# Altium schematic symbol library eggubator.SchLib: 30 symbols (part 2 of 2)
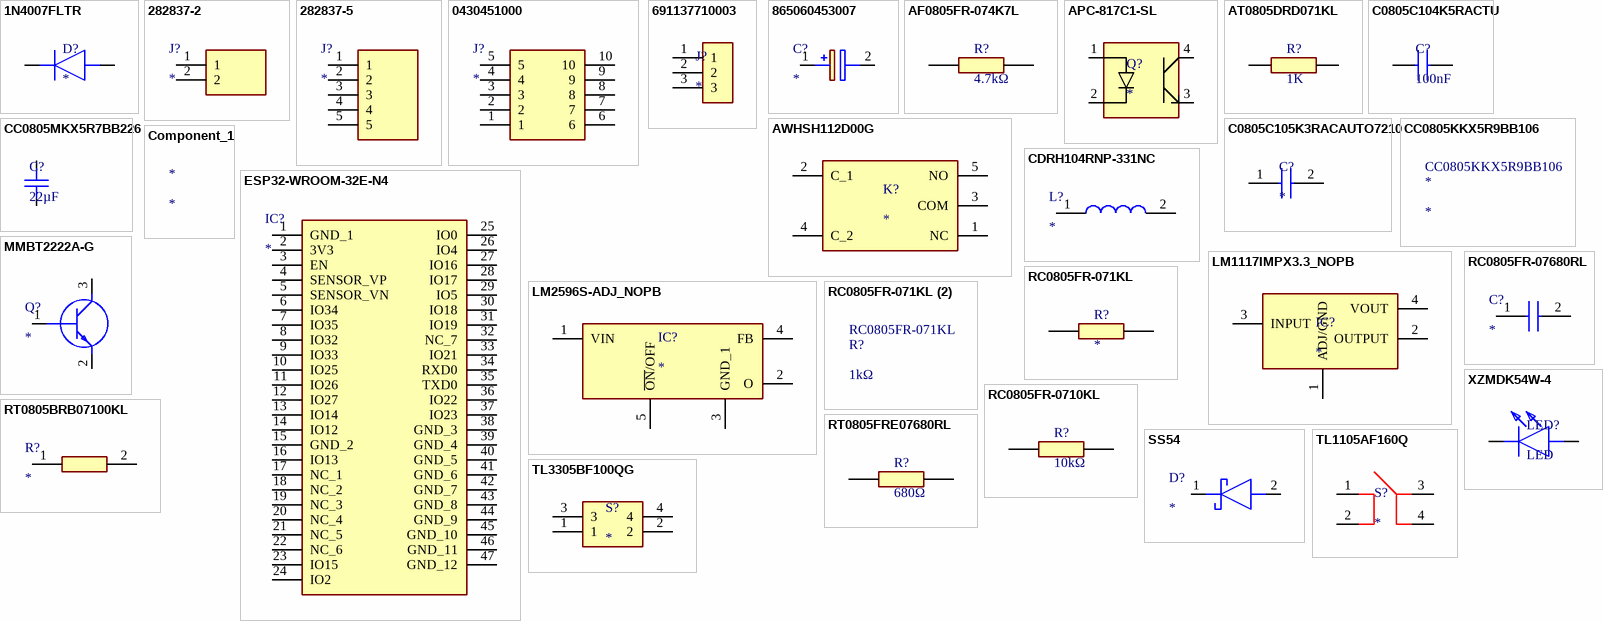
[diagram p1: symbols 1N4007FLTR to XZMDK54W-4]

## RC0805FR-07680RL
designator C?
Capacitor; Manufacturer_Name: Yageo Group; Manufacturer_Part_Number: RC0805FR-07680RL; Datasheet Link: https://www.yageo.com/upload/media/product/productsearch/datasheet/rchip/PYu-RC_Group_51_RoHS_L_12.pdf; Height: 0.6mm; Mouser Part Number: 603-RC0805FR-07680RL; Mouser Price/Stock: https://www.mouser.co.uk/ProductDetail/YAGEO/RC0805FR-07680RL?qs=g6xwsc4j%252B%2FokQfkwsK2vhQ%3D%3D; Arrow Part Number: RC0805FR-07680RL; Arrow Price/Stock: https://www.arrow.com/en/products/rc0805fr-07680rl/yageo.html?utm_currency=USD&region=europe
footprint CAPC2012X60N
pins: 1, 2

## RT0805BRB07100KL
designator R?
Resistor; Manufacturer_Name: Yageo Group; Manufacturer_Part_Number: RT0805BRB07100KL; Datasheet Link: https://componentsearchengine.com/Datasheets/1/RT0805BRB07100KL.pdf; Height: 0.6mm; Mouser Part Number: 603-RT0805BRB07100KL; Mouser Price/Stock: https://www.mouser.co.uk/ProductDetail/Yageo/RT0805BRB07100KL?qs=%2Ff7pOCXLR5dJS%252B%2Fgjsh%2Fvg%3D%3D; Arrow Part Number: RT0805BRB07100KL; Arrow Price/Stock: https://www.arrow.com/en/products/rt0805brb07100kl/yageo
footprint RESC2012X60N
pins: 1 (power), 2 (power)

## RT0805FRE07680RL
designator R?, comment 680Ω
125mW Thin Film Resistor ±50ppm/℃ ±1% 680Ω 0805 Chip Resistor - Surface Mount ROHS; Manufacturer: Yageo Group; Manufacturer Part Number: RT0805FRE07680RL; Manufacturer Package Identifier: 0805 (2012 metric); Temperature Coefficient: 50ppm/°C; Voltage Rating: 150V; Supplier 1: DigiKey; RoHS: Compliant; Category: Chip SMD Resistors; Stock 1: 3497; Pricing 1: 1=0.1, 10=0.019, 50=0.0166, 100=0.0157, 500=0.01376 (USD); Case/Package: 0805; Case Code (Imperial): 0805; China RoHS: Non-Compliant; Composition: Thin Film; Contact Plating: Tin; Country of Origin: Mainland China, Taiwan; Export Control Classification Number (ECCN) Code: EAR99; Height: 500µm; Harmonized Tariff Schedule (HTS) Code: 8533.21.00.30; Introduction Date: 2008-07-11; Lead Free: Lead Free; Length: 2mm; Lifecycle Status: Production; Max Operating Temperature: 155°C; Max Power Dissipation: 125mW; Min Operating Temperature: -55°C; Mount: Surface Mount; Number of Pins: 2; Number of Terminals: 2; Number of Terminations: 2; Packaging: Tape & Reel (TR); Power Rating: 125mW; Radiation Hardening: No; REACH SVHC: Yes; Resistance: 680Ω; Tolerance: 1%; Voltage Rating (DC): 150V; Width: 1.25mm; Working Voltage: 150V; ComponentLink1URL: https://datasheet.octopart.com:443/RT0805FRE07680RL-Yageo-datasheet-176402239.pdf?src-supplier=Future+Electronics; ComponentLink1Description: https://datasheet.octopart.com:443/RT0805FRE07680RL-Yageo-datasheet-176402239.pdf?src-supplier=Future+Electronics; ComponentLink2URL: https://datasheet.octopart.com:443/RT0805FRE07680RL-Yageo-datasheet-169971040.pdf?src-supplier=Future+Electronics; ComponentLink2Description: https://datasheet.octopart.com:443/RT0805FRE07680RL-Yageo-datasheet-169971040.pdf?src-supplier=Future+Electronics; ComponentLink3URL: https://datasheet.octopart.com:443/RT0805FRE07680RL-Yageo-datasheet-166250672.pdf?src-supplier=Future+Electronics; ComponentLink3Description: https://datasheet.octopart.com:443/RT0805FRE07680RL-Yageo-datasheet-166250672.pdf?src-supplier=Future+Electronics; ComponentLink4URL: https://datasheet.octopart.com:443/RT0805FRE07680RL-Yageo-datasheet-96443642.pdf?src-supplier=Upverter; ComponentLink4Description: https://datasheet.octopart.com:443/RT0805FRE07680RL-Yageo-datasheet-96443642.pdf?src-supplier=Upverter; ComponentLink5URL: https://datasheet.octopart.com:443/RT0805FRE07680RL-Yageo-datasheet-8324589.pdf?src-supplier=Farnell; ComponentLink5Description: https://datasheet.octopart.com:443/RT0805FRE07680RL-Yageo-datasheet-8324589.pdf?src-supplier=Farnell; ComponentLink6URL: https://datasheet.octopart.com/RT0805FRE07680RL-Yageo-datasheet-86813807.pdf; ComponentLink6Description: https://datasheet.octopart.com/RT0805FRE07680RL-Yageo-datasheet-86813807.pdf; ComponentLink7URL: http://sigma.octopart.com:80/conflict_mineral_statement/Yageo-company-3.pdf?src-supplier=Compliance+Statements; ComponentLink7Description: http://sigma.octopart.com:80/conflict_mineral_statement/Yageo-company-3.pdf?src-supplier=Compliance+Statements; ComponentLink8URL: http://sigma.octopart.com:80/rohs_statement/Yageo-company-2.pdf?src-supplier=Compliance+Statements; ComponentLink8Description: http://sigma.octopart.com:80/rohs_statement/Yageo-company-2.pdf?src-supplier=Compliance+Statements; Supplier Part Number 1: 13-RT0805FRE07680RLCT-ND
footprint RES 0805_2012 RF (Chip Resistor, 2-Leads, Body 2.00x1.25mm, IPC High Density)
pins: 1 (power), 2 (power)

## SS54
designator D?
Schottky Diode; Manufacturer_Name: DIYI Elec Tech; Manufacturer_Part_Number: SS54; Datasheet Link: https://datasheet.lcsc.com/szlcsc/DIYI-Elec-Tech-SS54_C84165.pdf; Height: 2.62mm
footprint DIOM5026X262N
pins: 1 K, 2 A

## TL1105AF160Q
designator S?
Switch; Manufacturer_Name: E-Switch; Manufacturer_Part_Number: TL1105AF160Q; Datasheet Link: https://configured-product-images.s3.amazonaws.com/2D/specs/TL1105CF250Q.pdf; Height: 6.8mm; Mouser Part Number: 612-TL1105A; Mouser Price/Stock: https://www.mouser.co.uk/ProductDetail/E-Switch/TL1105AF160Q?qs=YXf4ACKMM4wdc4witUH7eQ%3D%3D
footprint TL1105AF160Q
pins: 1 COM_1, 2 COM_2, 3 NO_1, 4 NO_2

## TL3305BF100QG
designator S?
Switch; Manufacturer_Name: E-Switch; Manufacturer_Part_Number: TL3305BF100QG; Datasheet Link: https://configured-product-images.s3.amazonaws.com/2D/specs/TL3313AF100QG.pdf; Mouser Part Number: 612-TL3305BF100QG; Mouser Price/Stock: https://www.mouser.co.uk/ProductDetail/E-Switch/TL3305BF100QG?qs=IKkN%2F947nfDIPwqPQja%252BvQ%3D%3D
footprint TL3305BF160QG
pins: 1, 2, 3, 4

## XZMDK54W-4
designator LED?, comment LED
Single Color LED, Red, Water Clear, 1.3mm; Manufacturer_Name: SunLED; Manufacturer_Part_Number: XZMDK54W-4; Forward Current: 30mA; Luminous Intensity: 149mcd; Number of Circuits: 1; Peak Wavelength: 650nm; Shape: Rectangular; Viewing Angle: 110°; Datasheet Link: https://www.sunledusa.com/products/spec/XZMDK54W-4.pdf; Height: 0.5mm; Supplier 1: DigiKey; Manufacturer: SunLED; Manufacturer Part Number: XZMDK54W-4; RoHS: Compliant; Category: LEDs; Stock 1: 23282; Pricing 1: 1=0.21, 10=0.143, 100=0.0996, 500=0.07964, 1000=0.07301 (USD); China RoHS: Compliant; Color: Red; Country of Origin: Mainland China; Harmonized Tariff Schedule (HTS) Code: 8541.40.20.00; Introduction Date: 2004-09-24; Lifecycle Status: Production; Max Operating Temperature: 85°C; Min Operating Temperature: -40°C; Mount: Surface Mount; Number of Terminals: 2; REACH SVHC: Yes; Terminal Pitch: 2.1mm; Wavelength: 650nm; ComponentLink1URL: https://datasheet.octopart.com:443/XZMDK54W-4-SunLED-datasheet-181251984.pdf?src-supplier=IHS; ComponentLink1Description: https://datasheet.octopart.com:443/XZMDK54W-4-SunLED-datasheet-181251984.pdf?src-supplier=IHS; ComponentLink2URL: https://datasheet.octopart.com:443/XZMDK54W-4-SunLED-datasheet-142371012.pdf?src-supplier=SunLED+SCT; ComponentLink2Description: https://datasheet.octopart.com:443/XZMDK54W-4-SunLED-datasheet-142371012.pdf?src-supplier=SunLED+SCT; Supplier Part Number 1: 1497-XZMDK54W-4CT-ND
footprint XZMDK54W4
pins: 1 K, 2 A